# Altium footprint library 3032TR.PcbLib: 1 footprints
Each footprint in its own frame and in the unit in brackets; x right, y up, seen from the top. Pads: shape width x height; smd on the part's side, far side on the other; paste and mask are expansions set on the pad; w line width, h text height; cw(c..) or ccw(c..) is an arc to the next point about the centre after c.
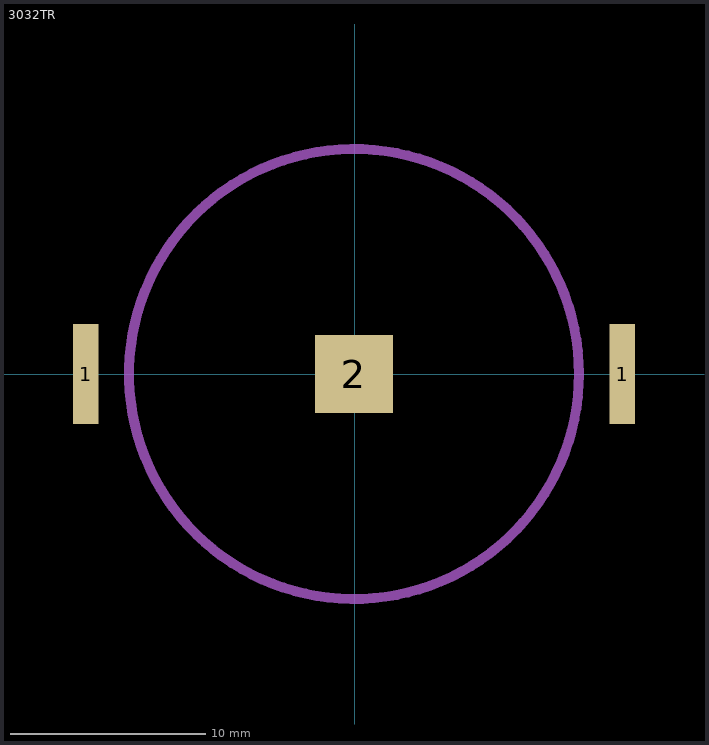
[diagram p0: the footprint, top view; thin cyan lines are the x and y axes]

## 3032TR [mm]
height 2
pads (3):
  rect 1.3x5.1 smd: 1(-13.766,0) 1(13.664,0)
  rect 4x4 smd: 2(-0.051,0)
Mechanical 1:
  circle w0.508: c-0.051,0 r11.5
3D body "3084TR.STEP": height 3.96, standoff 0, extent -17.335,-11.976 16.675,9.152